# Altium schematic symbol library nir_usb.SchLib: 15 symbols
Pins are listed as number, name and electrical type; pins without a type are passive.

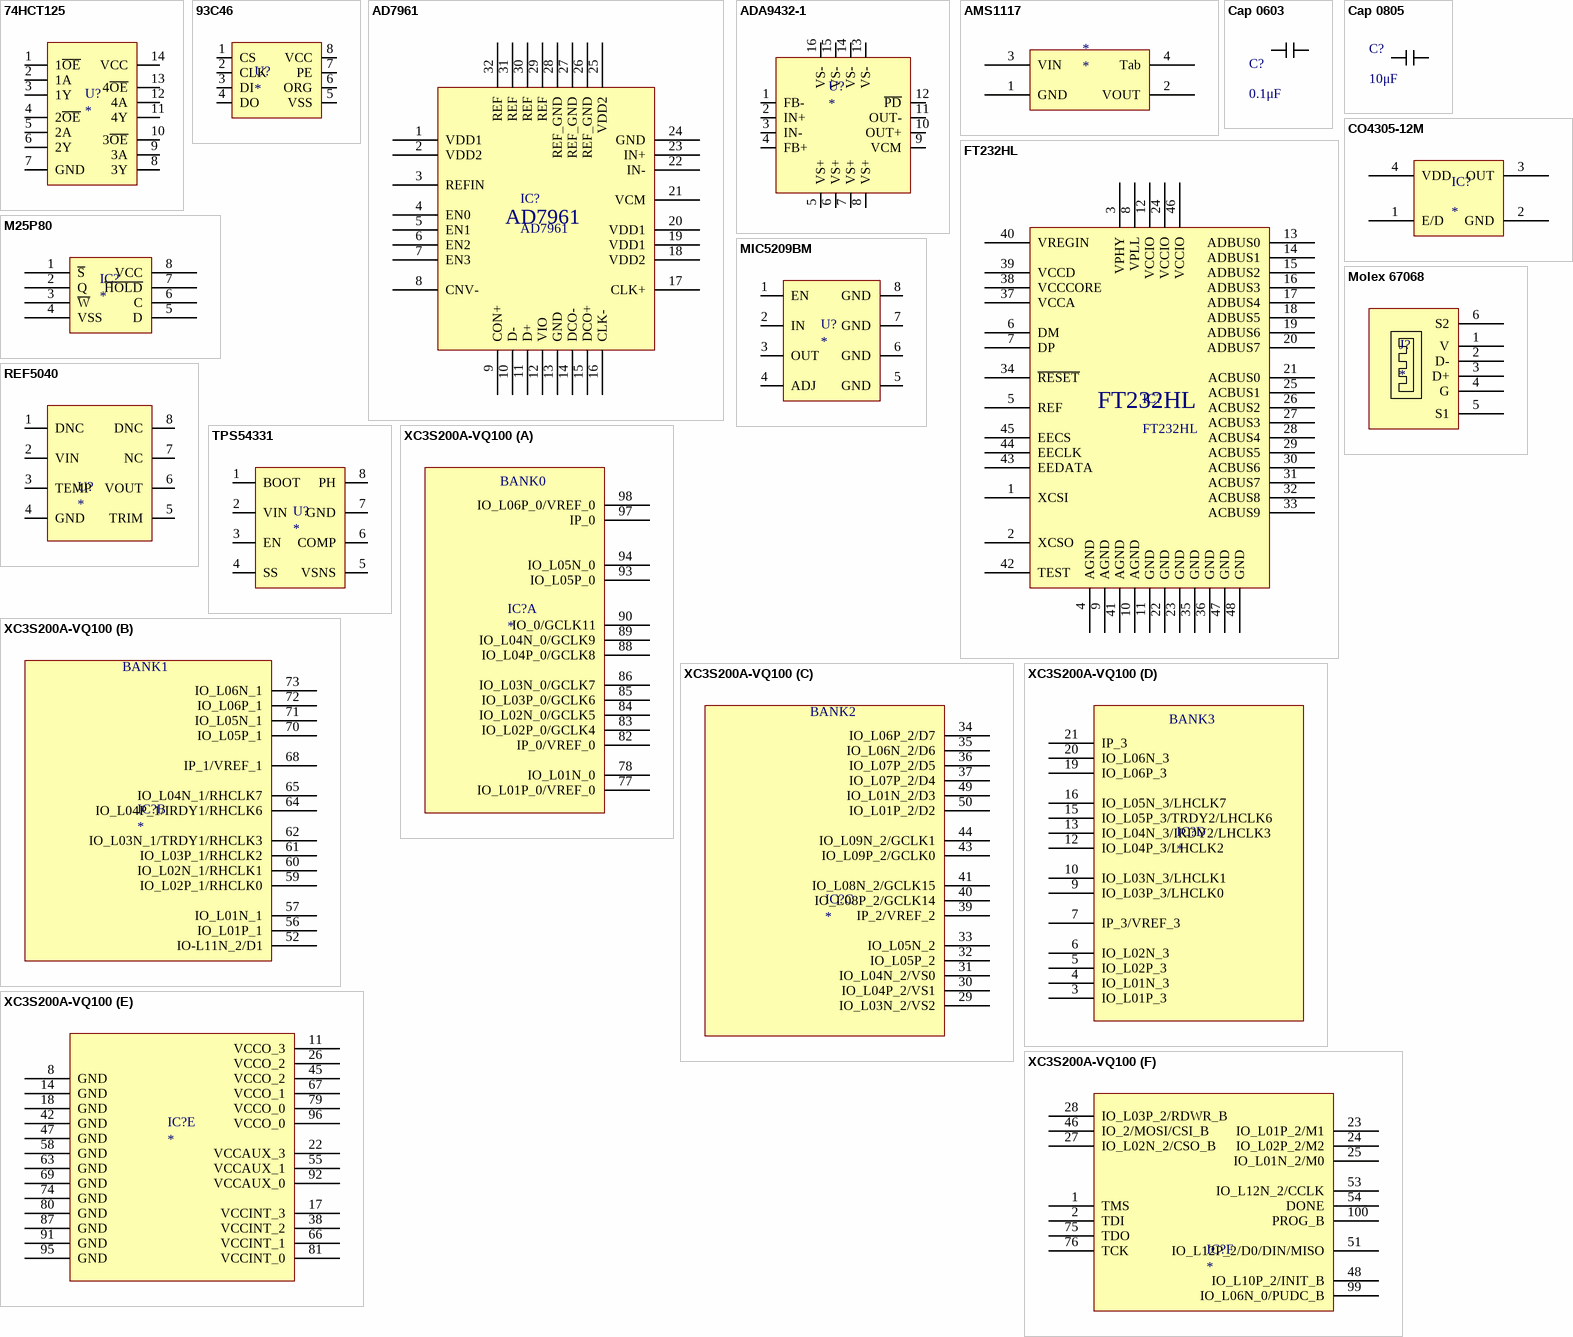
[diagram p0: symbols 74HCT125 to XC3S200A-VQ100]

## 74HCT125
designator U?
footprint SOP127P600X865-G14
pins: 1 1~{OE}, 2 1A, 3 1Y, 4 2~{OE}, 5 2A, 6 2Y, 7 GND, 8 3Y, 9 3A, 10 3~{OE}, 11 4Y, 12 4A, 13 4~{OE}, 14 VCC

## 93C46
designator U?
footprint SOIC127P600X175-8N
pins: 1 CS, 2 CLK, 3 DI, 4 DO, 5 VSS, 6 ORG, 7 PE, 8 VCC

## AD7961
designator IC?
footprint QFN50P500X500X80-33N
pins: 1 VDD1, 2 VDD2, 3 REFIN, 4 EN0, 5 EN1, 6 EN2, 7 EN3, 8 CNV-, 9 CON+, 10 D-, 11 D+, 12 VIO, 13 GND, 14 DCO-, 15 DCO+, 16 CLK-, 17 CLK+, 18 VDD2, 19 VDD1, 20 VDD1, 21 VCM, 22 IN-, 23 IN+, 24 GND, 25 VDD2, 26 REF_GND, 27 REF_GND, 28 REF_GND, 29 REF, 30 REF, 31 REF, 32 REF

## ADA9432-1
designator U?
footprint QFN50P300X300X100VQ-17N
pins: 1 FB-, 2 IN+, 3 IN-, 4 FB+, 5 VS+, 6 VS+, 7 VS+, 8 VS+, 9 VCM, 10 OUT+, 11 OUT-, 12 ~{PD}, 13 VS-, 14 VS-, 15 VS-, 16 VS-

## AMS1117
designator *
footprint SOT-223
pins: 1 GND, 2 VOUT, 3 VIN, 4 Tab

## Cap 0603
designator C?, comment 0.1μF
footprint 0603 (Chip Capacitor; Body 1.6 x 0.8 mm (LxW typ))

## Cap 0805
designator C?, comment 10μF
footprint C0805 (Chip Capacitor; Body 2.0 x 1.2 mm (LxW typ))

## CO4305-12M
designator IC?
footprint CO4305-12
pins: 1 E/D, 2 GND, 3 OUT, 4 VDD

## FT232HL
designator IC?
footprint QFP50P900X900X160-48N
pins: 1 XCSI, 2 XCSO, 3 VPHY, 4 AGND, 5 REF, 6 DM, 7 DP, 8 VPLL, 9 AGND, 10 AGND, 11 GND, 12 VCCIO, 13 ADBUS0, 14 ADBUS1, 15 ADBUS2, 16 ADBUS3, 17 ADBUS4, 18 ADBUS5, 19 ADBUS6, 20 ADBUS7, 21 ACBUS0, 22 GND, 23 GND, 24 VCCIO, 25 ACBUS1, 26 ACBUS2, 27 ACBUS3, 28 ACBUS4, 29 ACBUS5, 30 ACBUS6, 31 ACBUS7, 32 ACBUS8, 33 ACBUS9, 34 ~{RESET}, 35 GND, 36 GND, 37 VCCA, 38 VCCCORE, 39 VCCD, 40 VREGIN, 41 AGND, 42 TEST, 43 EEDATA, 44 EECLK, 45 EECS, 46 VCCIO, 47 GND, 48 GND

## M25P80
designator IC?
footprint SOIC127P790X203-8N
pins: 1 ~{S}, 2 Q, 3 ~{W}, 4 VSS, 5 D, 6 C, 7 ~{HOLD}, 8 VCC

## MIC5209BM
designator U?
footprint SOIC127P600X175-8N
pins: 1 EN, 2 IN, 3 OUT, 4 ADJ, 5 GND, 6 GND, 7 GND, 8 GND

## Molex 67068
designator J?
footprint USB-A
pins: 1 V, 2 D-, 3 D+, 4 G, 5 S1, 6 S2

## REF5040
designator U?
footprint SOIC127P600X175-8N
pins: 1 DNC, 2 VIN, 3 TEMP, 4 GND, 5 TRIM, 6 VOUT, 7 NC, 8 DNC

## TPS54331
designator U?
footprint SOIC127P600X175-8N
pins: 1 BOOT, 2 VIN, 3 EN, 4 SS, 5 VSNS, 6 COMP, 7 GND, 8 PH

## XC3S200A-VQ100
designator IC?
footprint QFP50P1600X1600X120-100N
part A pins: 77 IO_L01P_0/VREF_0, 78 IO_L01N_0, 82 IP_0/VREF_0, 83 IO_L02P_0/GCLK4, 84 IO_L02N_0/GCLK5, 85 IO_L03P_0/GCLK6, 86 IO_L03N_0/GCLK7, 88 IO_L04P_0/GCLK8, 89 IO_L04N_0/GCLK9, 90 IO_0/GCLK11, 93 IO_L05P_0, 94 IO_L05N_0, 97 IP_0, 98 IO_L06P_0/VREF_0
part B pins: 52 IO-L11N_2/D1, 56 IO_L01P_1, 57 IO_L01N_1, 59 IO_L02P_1/RHCLK0, 60 IO_L02N_1/RHCLK1, 61 IO_L03P_1/RHCLK2, 62 IO_L03N_1/TRDY1/RHCLK3, 64 IO_L04P_1/IRDY1/RHCLK6, 65 IO_L04N_1/RHCLK7, 68 IP_1/VREF_1, 70 IO_L05P_1, 71 IO_L05N_1, 72 IO_L06P_1, 73 IO_L06N_1
part C pins: 29 IO_L03N_2/VS2, 30 IO_L04P_2/VS1, 31 IO_L04N_2/VS0, 32 IO_L05P_2, 33 IO_L05N_2, 34 IO_L06P_2/D7, 35 IO_L06N_2/D6, 36 IO_L07P_2/D5, 37 IO_L07P_2/D4, 39 IP_2/VREF_2, 40 IO_L08P_2/GCLK14, 41 IO_L08N_2/GCLK15, 43 IO_L09P_2/GCLK0, 44 IO_L09N_2/GCLK1, 49 IO_L01N_2/D3, 50 IO_L01P_2/D2
part D pins: 3 IO_L01P_3, 4 IO_L01N_3, 5 IO_L02P_3, 6 IO_L02N_3, 7 IP_3/VREF_3, 9 IO_L03P_3/LHCLK0, 10 IO_L03N_3/LHCLK1, 12 IO_L04P_3/LHCLK2, 13 IO_L04N_3/IRDY2/LHCLK3, 15 IO_L05P_3/TRDY2/LHCLK6, 16 IO_L05N_3/LHCLK7, 19 IO_L06P_3, 20 IO_L06N_3, 21 IP_3
part E pins: 8 GND, 11 VCCO_3, 14 GND, 17 VCCINT_3, 18 GND, 22 VCCAUX_3, 26 VCCO_2, 38 VCCINT_2, 42 GND, 45 VCCO_2, 47 GND, 55 VCCAUX_1, 58 GND, 63 GND, 66 VCCINT_1, 67 VCCO_1, 69 GND, 74 GND, 79 VCCO_0, 80 GND, 81 VCCINT_0, 87 GND, 91 GND, 92 VCCAUX_0, 95 GND, 96 VCCO_0
part F pins: 1 TMS, 2 TDI, 23 IO_L01P_2/M1, 24 IO_L02P_2/M2, 25 IO_L01N_2/M0, 27 IO_L02N_2/CSO_B, 28 IO_L03P_2/RDWR_B, 46 IO_2/MOSI/CSI_B, 48 IO_L10P_2/INIT_B, 51 IO_L12P_2/D0/DIN/MISO, 53 IO_L12N_2/CCLK, 54 DONE, 75 TDO, 76 TCK, 99 IO_L06N_0/PUDC_B, 100 PROG_B
part A text: BANK0
part B text: BANK1
part C text: BANK2
part D text: BANK3